# Altium schematic symbol library SCH - DRIVER - MAX31760AEE+T.SCHLIB: 1 symbol
Pins are listed as number, name and electrical type; pins without a type are passive.

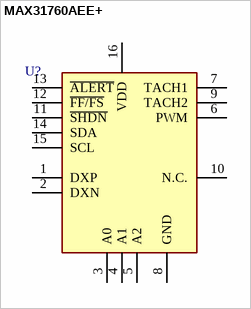
[diagram p0: symbol MAX31760AEE+]

## MAX31760AEE+
designator U?
pins: 1 DXP, 2 DXN, 3 A0, 4 A1, 5 A2, 6 PWM, 7 TACH1, 8 GND, 9 TACH2, 10 N.C., 11 ~{SHDN}, 12 ~{FF/FS}, 13 ~{ALERT}, 14 SDA, 15 SCL, 16 VDD